# Altium schematic symbol library dc21-v0505slf.SchLib: 1 symbol
Pins are listed as number, name and electrical type; pins without a type are passive.

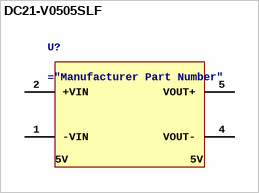
[diagram p0: symbol DC21-V0505SLF]

## DC21-V0505SLF
designator U?
Isolated Module DC DC Converter 1 Output 5V 400mA 4.5V - 5.5V Input
pins: 1 -VIN, 2 +VIN, 4 VOUT-, 5 VOUT+
text: 5V